# Altium footprint library Crys_Abracon_AWSCR-8.00CV-T_eec_0.PcbLib: 1 footprints
Each footprint in its own frame and in the unit in brackets; x right, y up, seen from the top. Pads: shape width x height; smd on the part's side, far side on the other; paste and mask are expansions set on the pad; w line width, h text height; cw(c..) or ccw(c..) is an arc to the next point about the centre after c.
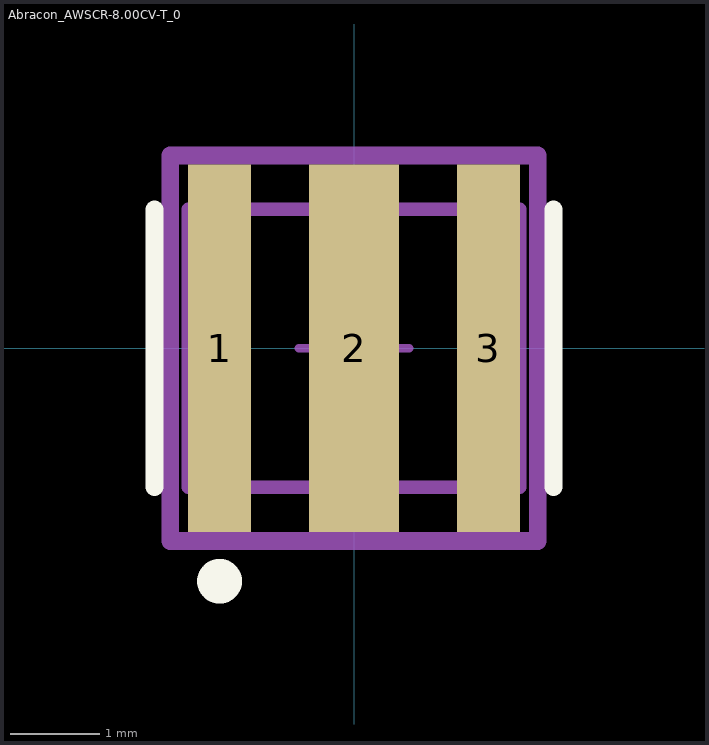
[diagram p0: the footprint, top view; thin cyan lines are the x and y axes]

## Abracon_AWSCR-8.00CV-T_0 [mm]
pads (3):
  rect 0.7x4.1 smd paste+0 mask+0: 1(-1.5,0) 3(1.5,0)
  rect 1x4.1 smd paste+0 mask+0: 2(0,0)
Top Overlay:
  circle w0.25: c-1.5,-2.6 r0.125
  lines w0.2: -2.225,-1.55 -2.225,1.55 ; 2.225,-1.55 2.225,1.55
Mechanical 10:
  lines w0.2: -2.05,-2.15 2.05,-2.15 2.05,2.15 -2.05,2.15 -2.05,-2.15
  text ".Designator" at 0,0 h1
Mechanical 12:
  lines w0.15: -1.85,-1.55 1.85,-1.55 1.85,1.55 -1.85,1.55 -1.85,-1.55
Mechanical 15:
  lines w0.1: -0.615,0 0.615,0 ; 0,-0.615 0,0.615
  lines w0.2: -2.05,-2.15 2.05,-2.15 2.05,2.15 -2.05,2.15 -2.05,-2.15
3D body "Crys_Abracon_AWSCR-8.00CV-T_eec.STEP": height 0.25, standoff 0, extent -2.05,-2.15 2.05,2.15